# Altium footprint library 3SPC090.PcbLib: 1 footprints
Each footprint in its own frame and in the unit in brackets; x right, y up, seen from the top. Pads: shape width x height; smd on the part's side, far side on the other; paste and mask are expansions set on the pad; w line width, h text height; cw(c..) or ccw(c..) is an arc to the next point about the centre after c.
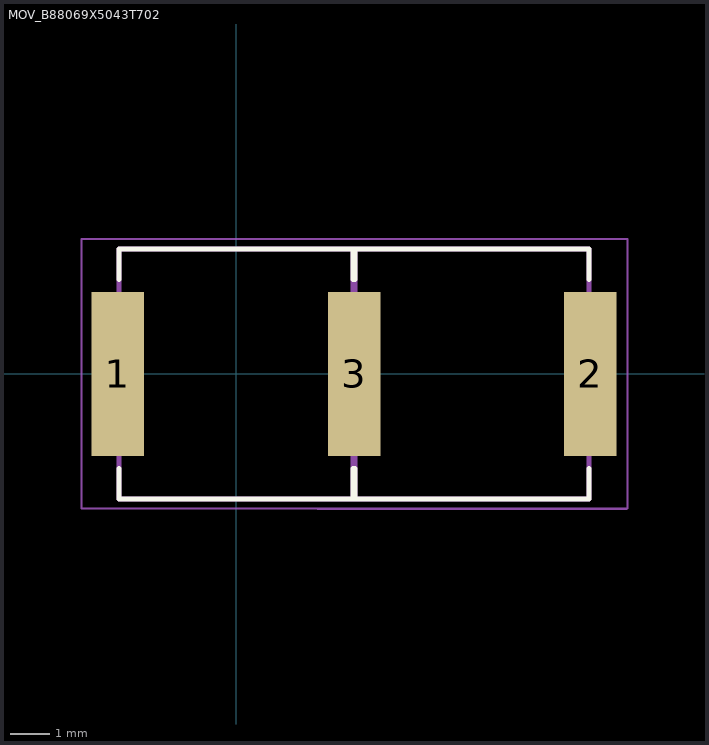
[diagram p0: the footprint, top view; thin cyan lines are the x and y axes]

## MOV_B88069X5043T702 [mm]
height 6.5
pads (3):
  rect 1.35x4.2 smd: 1(-3.025,0) 2(9.067,0) 3(3.025,0)
Top Overlay:
  lines w0.127: -3,-2.42 -3,-3.2 3,-3.2 3,-2.42 ; -3,2.42 -3,3.2 3,3.2 3,2.42 ; 3.042,-2.422 3.042,-3.202 9.042,-3.202 9.042,-2.422 ; 3.042,2.418 3.042,3.198 9.042,3.198 9.042,2.418
Mechanical 13:
  lines w0.127: -3,-3.2 3,-3.2 3,3.2 -3,3.2 -3,-3.2 ; 3.042,-3.202 9.042,-3.202 9.042,3.198 3.042,3.198 3.042,-3.202
Mechanical 15:
  lines w0.05: 2.092,-3.452 9.992,-3.452 ; -3.95,-3.45 10.025,-3.45 10.025,3.45 -3.95,3.45 -3.95,-3.45